# Altium footprint library CAPC162X82X95L40N.PcbLib: 1 footprints
Each footprint in its own frame and in the unit in brackets; x right, y up, seen from the top. Pads: shape width x height; smd on the part's side, far side on the other; paste and mask are expansions set on the pad; w line width, h text height; cw(c..) or ccw(c..) is an arc to the next point about the centre after c.
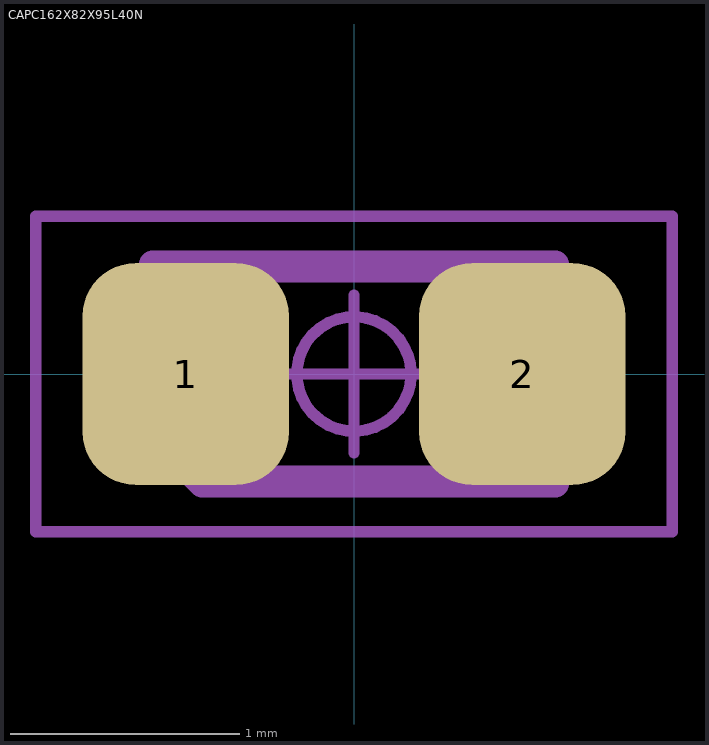
[diagram p0: the footprint, top view; thin cyan lines are the x and y axes]

## CAPC162X82X95L40N [mm] "Capacitor, Chip; 1.625 mm L X 0.825 mm W X 0.95 mm H body"
height 0.95
pads (2):
  rrect51% 0.9x0.97 smd: 1(-0.735,0) 2(0.735,0)
Mechanical 3:
  lines w0.12: -0.88,-0.263 -0.663,-0.48 0.88,-0.48 0.88,0.48 -0.88,0.48 -0.88,-0.263
Mechanical 5:
  lines w0.025: -0.813,-0.413 -0.413,-0.413 -0.413,0.413 -0.813,0.413 ; -0.813,-0.413 -0.813,0.413 ; -0.813,-0.413 -0.813,0.413 ; -0.813,-0.413 0.813,-0.413 ; -0.813,0.413 0.813,0.413 ; 0.813,-0.413 0.813,0.413 ; 0.813,-0.413 0.413,-0.413 0.413,0.413 0.813,0.413 ; 0.813,-0.413 0.813,0.413
Mechanical 7:
  circle w0.05: c0,0 r0.25
  lines w0.05: -0.345,0 0.345,0 ; 0,-0.345 0,0.345 ; -1.39,-0.69 -1.39,0.69 1.39,0.69 1.39,-0.69 -1.39,-0.69
Mechanical 9:
  text "'.Designator'" at -5.334,-0.508 h1
3D body "CAPC162X82X95L40.STEP": height 0.95, standoff 0, extent -0.813,-0.413 0.813,0.413
3D body: height 1, standoff 0, extent -1.39,-0.69 1.39,0.69